# Altium schematic symbol library Switch_Cherry_MX1A-C1NW_eec.SchLib: 1 symbol
Pins are listed as number, name and electrical type; pins without a type are passive.

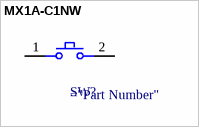
[diagram p0: symbol MX1A-C1NW]

## MX1A-C1NW
designator SW?  (value not drawn)
pins: 1, 2